# EAGLE library part COMPANDER (library mb_delay)
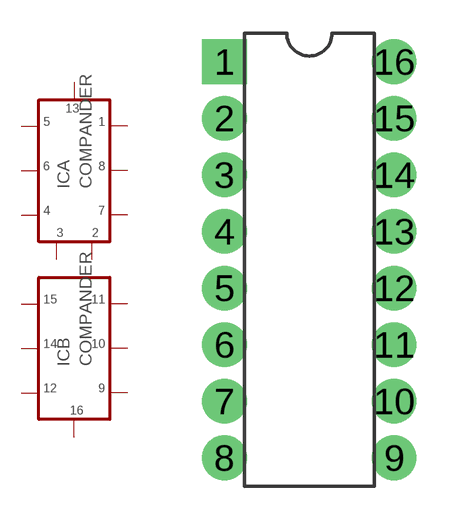
[diagram p0: symbol with the pads of DIL16; footprint DIL16]

Designator prefix IC; gates A=COMPRESSOR B=EXPANDOR

## COMPANDER  [DIL16]
1  A:1
2  A:2
3  A:3
4  A:4
5  A:5
6  A:6
7  A:7
8  A:8
9  B:9
10  B:10
11  B:11
12  B:12
13  A:13
14  B:14
15  B:15
16  B:16

## Footprint DIL16 (pad centres in mm)
drill 1 pad 2 square: 1 -3.81,8.89
drill 1 pad 2 round: 2 -3.81,6.35; 3 -3.81,3.81; 4 -3.81,1.27; 5 -3.81,-1.27; 6 -3.81,-3.81; 7 -3.81,-6.35; 8 -3.81,-8.89; 9 3.81,-8.89; 10 3.81,-6.35; 11 3.81,-3.81; 12 3.81,-1.27; 13 3.81,1.27; 14 3.81,3.81; 15 3.81,6.35; 16 3.81,8.89